# Altium schematic symbol library SCH - POWER - LINEAR VREG - AD MAX25301B.SCHLIB: 1 symbol
Pins are listed as number, name and electrical type; pins without a type are passive.

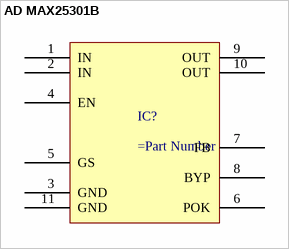
[diagram p0: symbol AD MAX25301B]

## AD MAX25301B
designator IC?
pins: 1 IN, 2 IN, 3 GND, 4 EN, 5 GS, 6 POK, 7 FB, 8 BYP, 9 OUT, 10 OUT, 11 GND